# Altium footprint library PcbLib1.PcbLib: 264 footprints (part 6 of 17)
Each footprint in its own frame and in the unit in brackets; x right, y up, seen from the top. Pads: shape width x height; smd on the part's side, far side on the other; paste and mask are expansions set on the pad; w line width, h text height; cw(c..) or ccw(c..) is an arc to the next point about the centre after c.
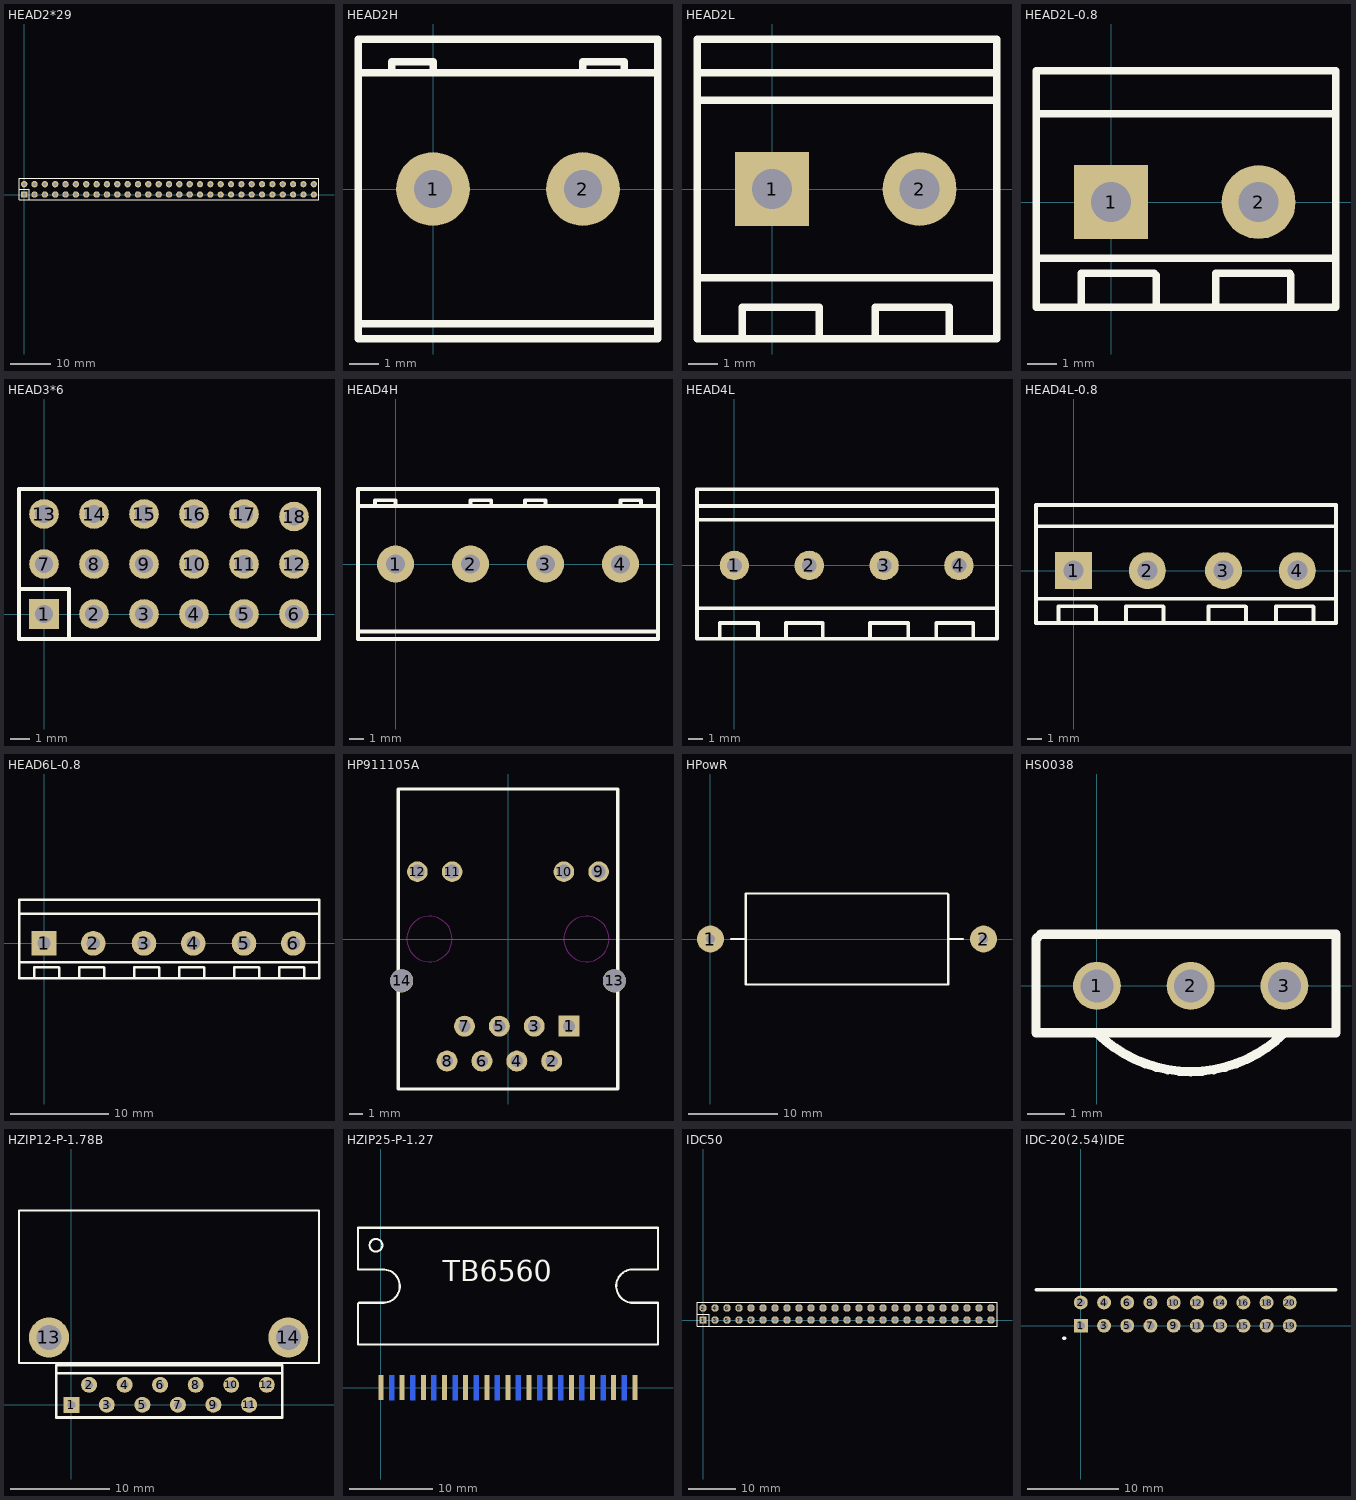
[diagram p5: the footprints below, top view; thin cyan lines are the x and y axes]

## HEAD2*29 [mil] "PIN:2.54mm;HEAD;"
height 393.7
pads (58):
  rect 62x62 hole 35: 1(0.42,0.42)
  round 62 hole 35: 2(0.42,100.42) 3(100.42,0.42) 4(100.42,100.42) 5(200.43,0.42) 6(200.43,100.42) 7(300.43,0.42) 8(300.43,100.42) 9(400.43,0.42) 10(400.43,100.42) 11(500.43,0.42) 12(500.43,100.42) 13(600.42,0.42) 14(600.42,100.42) 15(700.42,0.42) 16(700.42,100.42) 17(800.42,0.42) 18(800.42,100.42) 19(900.42,0.42) 20(900.42,100.42) 21(1000.42,0.42) 22(1000.42,100.42) 23(1100.42,0.42) 24(1100.42,100.42) 25(1200.42,0.42) 26(1200.42,100.42) 27(1300.42,0.42) 28(1300.42,100.42) 29(1400.42,0.42) 30(1400.42,100.42) 31(1500.42,0.42) 32(1500.42,100.42) 33(1600.42,0.42) 34(1600.42,100.42)
  round 60 hole 30: 35(1700,0) 36(1700,100) 37(1800,0) 38(1800,100) 39(1900,0) 40(1900,100) 41(2000,0) 42(2000,100) 43(2100,0) 44(2100,100) 45(2200,0) 46(2200,100) 47(2300,0) 48(2300,100) 49(2400,0) 50(2400,100) 51(2500,0) 52(2500,100) 53(2600,0) 54(2600,100) 55(2700,0) 56(2700,100) 57(2800,0) 58(2800,100)
Top Overlay:
  lines w7: -49.58,51.18 51.18,51.18 51.18,-49.58 ; 2848.06,-49.58 1650.42,-49.58 -49.58,-49.58 -49.58,150.43 -49.58,155.87 -47.97,157.48 2850.39,157.48 2850.39,-49.58

## HEAD2H [mm] "10.16mm*10.16mm,pin:5.08mm"
height 20
pads (2):
  round 2.5 hole 1.3: 1(0,0) 2(5.08,0)
Top Overlay:
  lines w0.254: -2.54,-4.572 7.62,-4.572 ; -2.54,3.937 7.62,3.937 ; -1.397,3.937 -1.397,4.318 0,4.318 0,3.937 ; 5.08,3.937 5.08,4.318 6.477,4.318 6.477,3.937 ; -2.54,-5.08 -2.54,5.08 7.62,5.08 7.62,-5.08 -2.54,-5.08

## HEAD2L [mm] "10.16mm*10.16mm,pin:5.08mm"
height 15
pads (2):
  rect 2.5x2.5 hole 1.35: 1(0,0)
  round 2.5 hole 1.35: 2(5,0)
Top Overlay:
  lines w0.254: -2.54,-3 7.62,-3 ; -2.54,3 7.62,3 ; -2.54,3.937 7.62,3.937 ; -1,-5.08 -1,-4 1.6,-4 1.6,-5.08 ; 3.5,-5.08 3.5,-4 6,-4 6,-5.08 ; -2.54,-5.08 7.62,-5.08 7.62,5.08 -2.54,5.08 -2.54,-5.08

## HEAD2L-0.8 [mm] "10.16mm*10.16mm,pin:5.08mm"
height 15
pads (2):
  rect 2.5x2.5 hole 1.35: 1(0,0)
  round 2.5 hole 1.35: 2(5,0)
Top Overlay:
  lines w0.254: -2.54,-1.905 7.62,-1.905 ; -2.54,3 7.62,3 ; -1.016,-3.556 -1.016,-2.476 ; -1.016,-2.413 1.461,-2.413 1.524,-2.476 1.524,-3.556 ; 3.556,-3.493 3.556,-2.413 6.056,-2.413 ; 6.096,-3.556 6.096,-2.476 ; -2.54,-3.556 7.62,-3.556 7.62,4.445 -2.54,4.445 -2.54,-3.556

## HEAD3*6 [mm] "Connector; Header; 6x3 Position"
height 0.8
pads (18):
  rect 1.5x1.5 hole 0.9: 1(0,0)
  round 1.5 hole 0.9: 2(2.54,0) 3(5.08,0) 4(7.62,0) 5(10.16,0) 6(12.7,0) 7(0,2.54) 8(2.54,2.54) 9(5.08,2.54) 10(7.62,2.54) 11(10.16,2.54) 12(12.7,2.54) 13(0,5.08) 14(2.54,5.08) 15(5.08,5.08) 16(7.62,5.08) 17(10.16,5.08) 18(12.7,4.953)
Top Overlay:
  lines w0.2: -1.27,1.27 1.27,1.27 1.27,-1.27 ; -1.27,-1.27 13.97,-1.27 13.97,3.81 13.97,6.35 -1.27,6.35 -1.27,3.81 -1.27,-1.27

## HEAD4H [mm] "20.32*10.16,pin:5.08mm"
height 20
pads (4):
  round 2.5 hole 1.3: 1(0,0) 2(5.08,0) 3(10.16,0) 4(15.24,0)
Top Overlay:
  lines w0.254: -2.54,-4.572 7.62,-4.572 17.78,-4.572 ; -2.54,3.937 7.62,3.937 17.78,3.937 ; -1.397,3.937 -1.397,4.318 0,4.318 0,3.937 ; 5.08,3.937 5.08,4.318 6.477,4.318 6.477,3.937 ; 8.763,3.937 8.763,4.318 10.16,4.318 10.16,3.937 ; 15.24,3.937 15.24,4.318 16.637,4.318 16.637,3.937 ; -2.54,-5.08 -2.54,5.08 7.62,5.08 17.78,5.08 17.78,-5.08 7.62,-5.08 -2.54,-5.08

## HEAD4L [mm] "20.32*10.16,pin:5.08mm"
height 15
pads (4):
  round 2 hole 1: 1(0,0) 2(5.08,0) 3(10.16,0) 4(15.24,0)
Top Overlay:
  lines w0.254: -2.54,-2.9 7.62,-2.9 ; -2.54,3.1 7.62,3.1 ; -2.54,4.037 7.62,4.037 ; -1,-4.98 -1,-3.9 1.6,-3.9 1.6,-4.98 ; 3.5,-4.98 3.5,-3.9 6,-3.9 6,-4.98 ; 7.62,-4.98 -2.54,-4.98 -2.54,5.18 7.62,5.18 ; 7.66,-4.98 17.82,-4.98 17.82,5.18 7.66,5.18 ; 7.66,-2.9 17.82,-2.9 ; 7.66,3.1 17.82,3.1 ; 7.66,4.037 17.82,4.037 ; 9.2,-4.98 9.2,-3.9 11.8,-3.9 11.8,-4.98 ; 13.7,-4.98 13.7,-3.9 16.2,-3.9 16.2,-4.98

## HEAD4L-0.8 [mm] "20mm*8mm,pin:5.08mm"
height 15
pads (4):
  rect 2.5x2.5 hole 1.35: 1(0,0)
  round 2.5 hole 1.35: 2(5,0) 3(10.16,0) 4(15.16,0)
Top Overlay:
  lines w0.254: -2.54,-1.905 7.62,-1.905 17.78,-1.905 ; -2.54,3 7.62,3 17.78,3 ; -1.016,-3.556 -1.016,-2.476 ; -1.016,-2.413 1.461,-2.413 1.524,-2.476 1.524,-3.556 ; 3.556,-3.493 3.556,-2.413 6.056,-2.413 ; 6.096,-3.556 6.096,-2.476 ; 9.144,-3.556 9.144,-2.476 ; 9.144,-2.413 11.621,-2.413 11.684,-2.476 11.684,-3.556 ; 13.716,-3.493 13.716,-2.413 16.216,-2.413 ; 16.256,-3.556 16.256,-2.476 ; -2.54,-3.556 7.62,-3.556 17.78,-3.556 17.78,4.445 7.62,4.445 -2.54,4.445 -2.54,-3.556

## HEAD6L-0.8 [mm] "30mm*8mm,pin:5.08mm"
height 15
pads (6):
  rect 2.5x2.5 hole 1.35: 1(0,0)
  round 2.5 hole 1.35: 2(5,0) 3(10.16,0) 4(15.16,0) 5(20.32,0) 6(25.32,0)
Top Overlay:
  lines w0.254: -2.54,-1.905 7.62,-1.905 17.78,-1.905 27.94,-1.905 ; -2.54,3 7.62,3 17.78,3 27.94,3 ; -1.016,-3.556 -1.016,-2.476 ; -1.016,-2.413 1.461,-2.413 1.524,-2.476 1.524,-3.556 ; 3.556,-3.493 3.556,-2.413 6.056,-2.413 ; 6.096,-3.556 6.096,-2.476 ; 9.144,-3.556 9.144,-2.476 ; 9.144,-2.413 11.621,-2.413 11.684,-2.476 11.684,-3.556 ; 13.716,-3.493 13.716,-2.413 16.216,-2.413 ; 16.256,-3.556 16.256,-2.476 ; 19.304,-3.556 19.304,-2.476 ; 19.304,-2.413 21.781,-2.413 21.844,-2.476 21.844,-3.556 ; 23.876,-3.493 23.876,-2.413 26.376,-2.413 ; 26.416,-3.556 26.416,-2.476 ; -2.54,-3.556 7.62,-3.556 17.78,-3.556 27.94,-3.556 27.94,4.445 17.78,4.445 7.62,4.445 -2.54,4.445 -2.54,-3.556

## HP911105A [mm] "NET_WORK"
height 11
pads (14):
  rect 1.524x1.524 hole 0.889: 1(4.45,-6.35)
  round 1.524 hole 0.889: 2(3.18,-8.89) 3(1.91,-6.35) 4(0.64,-8.89) 5(-0.63,-6.35) 6(-1.9,-8.89) 7(-3.17,-6.35) 8(-4.44,-8.89)
  round 1.5 hole 1.02: 9(6.6,4.9) 10(4.064,4.9) 11(-4.064,4.9) 12(-6.6,4.9)
  round 1.7 hole 1.65: 13(7.75,-3.048) 14(-7.75,-3.048)
Top Overlay:
  lines w0.254: -8,-10.922 -8,10.922 0,10.922 8,10.922 8,-10.922 0,-10.922 -8,-10.922
Keep-Out Layer:
  circle w0.051: c5.716,0 r1.65
  circle w0.051: c-5.714,0 r1.65

## HPowR [mm] "HPR"
height 10
pads (2):
  round 3 hole 1: 1(0,0) 2(30.48,0)
Top Overlay:
  lines w0.254: 2.286,0 3.937,0 ; 26.543,-2.921 26.543,2.794 ; 26.543,-2.667 26.543,-5.08 3.937,-5.08 3.937,-2.667 3.937,2.54 3.937,5.08 26.416,5.08 26.543,4.953 26.543,2.413 ; 26.543,0 28.194,0

## HS0038 [mm]
height 2.54
pads (3):
  round 1.3 hole 0.9: 1(0,0) 2(2.54,0) 3(5.08,0)
Top Overlay:
  lines w0.254: 0,-1.27 ccw(c2.54,1.27) 5.08,-1.27 ; -1.651,-1.27 6.477,-1.27 6.477,1.397 -1.524,1.397 -1.651,1.27 -1.651,-1.27

## HZIP12-P-1.78B [mm]
height 14.8
pads (14):
  rect 1.6x1.6 hole 0.8: 1(0,0)
  round 1.6 hole 0.8: 2(1.778,2) 3(3.556,0) 4(5.334,2) 5(7.112,0) 6(8.89,2) 7(10.668,0) 8(12.446,2) 9(14.224,0) 10(16.002,2) 11(17.78,0) 12(19.558,2)
  round 4 hole 2.5: 13(-2.227,6.731) 14(21.717,6.731)
Top Overlay:
  lines w0.2: -5.227,4.191 -5.227,19.431 24.779,19.431 24.779,4.191 -5.227,4.191
  lines w0.254: -1.524,3.175 21.082,3.175 ; -1.524,-1.27 -1.524,3.937 21.082,3.937 21.082,-1.27 -1.524,-1.27

## HZIP25-P-1.27 [mm] "thick:4.57,height:14,lenth:30,pin:1.27"
height 14
pads (25):
  rect 0.6x3 smd: 1(0,0) 3(2.54,0) 5(5.08,0) 7(7.62,0) 9(10.16,0) 11(12.7,0) 13(15.24,0) 15(17.78,0) 17(20.32,0) 19(22.86,0) 21(25.4,0) 23(27.94,0) 25(30.48,0)
  rect 0.6x3 smd far side: 2(1.27,0) 4(3.81,0) 6(6.35,0) 8(8.89,0) 10(11.43,0) 12(13.97,0) 14(16.51,0) 16(19.05,0) 18(21.59,0) 20(24.13,0) 22(26.67,0) 24(29.21,0)
Top Overlay:
  circle w0.254: c-0.6,17.1 r0.762
  lines w0.254: 0.2,14.195 cw(c0.26,12.195) 0.1,10.2 -2.66,10.2 -2.76,10.1 -2.76,5.2 0.8,5.2 33.26,5.2 33.26,10.2 30,10.2 ; 0.4,14.2 -2.76,14.2 -2.76,19.2 33.26,19.2 33.26,14.2 30,14.2 ; 30.3,10.2 cw(c30.24,12.2) 30.4,14.195
  text "TB6560" at 7.4,12.8 h2.5

## IDC50 [mil]
pads (50):
  rect 62x62 hole 40: 1(0,0)
  round 62 hole 40: 2(0,100) 3(100,0) 4(100,100) 5(200,0) 6(200,100) 7(300,0) 8(300,100) 9(400,0) 10(400,100) 11(500,0) 12(500,100) 13(600,0) 14(600,100) 15(700,0) 16(700,100) 17(800,0) 18(800,100) 19(900,0) 20(900,100) 21(1000,0) 22(1000,100) 23(1100,0) 24(1100,100) 25(1200,0) 26(1200,100) 27(1300,0) 28(1300,100) 29(1400,0) 30(1400,100) 31(1500,0) 32(1500,100) 33(1600,0) 34(1600,100) 35(1700,0) 36(1700,100) 37(1800,0) 38(1800,100) 39(1900,0) 40(1900,100) 41(2000,0) 42(2000,100) 43(2100,0) 44(2100,100) 45(2200,0) 46(2200,100) 47(2300,0) 48(2300,100) 49(2400,0) 50(2400,100)
Top Overlay:
  lines w6: -50,50 50,50 50,-50 ; -50,-50 2450,-50 2450,150 -50,150 -50,-50

## IDC-20(2.54)IDE [mil]
height 104.33
pads (20):
  rect 60x60 hole 36: 1(0,0)
  round 60 hole 36: 2(0,100) 3(100,0) 4(100,100) 5(200,0) 6(200,100) 7(300,0) 8(300,100) 9(400,0) 10(400,100) 11(500,0) 12(500,100) 13(600,0) 14(600,100) 15(700,0) 16(700,100) 17(800,0) 18(800,100) 19(900,0) 20(900,100)
Top Overlay:
  lines w15: -193,155 1099,155 ; -72.48,-54 -69,-54